# EAGLE library part HELTEC-WIFI-KIT-32 (library BadgeParts)
Footprint and pinout for the Heltec Automation Wifi Kit 32 based upon the ESP32 module.
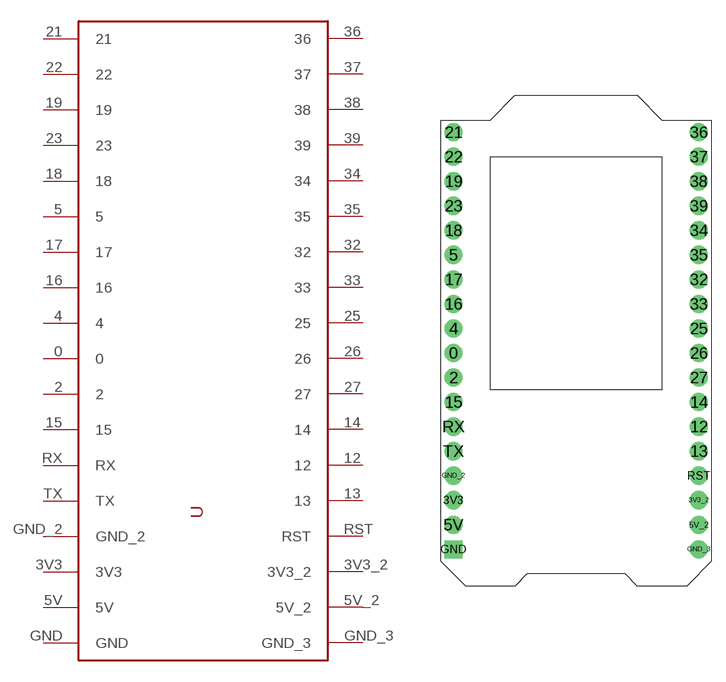
[diagram p0: symbol with the pads of HELTEC-WIFI-KIT-32; footprint HELTEC-WIFI-KIT-32]

Designator prefix -

## HELTEC-WIFI-KIT-32  [HELTEC-WIFI-KIT-32]
0  0
2  2
3V3  3V3
3V3_2  3V3_2
4  4
5  5
5V  5V
5V_2  5V_2
12  12
13  13
14  14
15  15
16  16
17  17
18  18
19  19
21  21
22  22
23  23
25  25
26  26
27  27
32  32
33  33
34  34
35  35
36  36
37  37
38  38
39  39
GND  GND
GND_2  GND_2
GND_3  GND_3
RST  RST
RX  RX
TX  TX

## Footprint HELTEC-WIFI-KIT-32 (pad centres in mm)
drill 1.016 pad 1.88: 0 0,20.32; 2 0,17.78; 3V3 0,5.08; 3V3_2 25.4,5.08; 4 0,22.86; 5 0,30.48; 5V 0,2.54; 5V_2 25.4,2.54; 12 25.4,12.7; 13 25.4,10.16; 14 25.4,15.24; 15 0,15.24; 16 0,25.4; 17 0,27.94; 18 0,33.02; 19 0,38.1; 21 0,43.18; 22 0,40.64; 23 0,35.56; 25 25.4,22.86; 26 25.4,20.32; 27 25.4,17.78; 32 25.4,27.94; 33 25.4,25.4; 34 25.4,33.02; 35 25.4,30.48; 36 25.4,43.18; 37 25.4,40.64; 38 25.4,38.1; 39 25.4,35.56; GND_2 0,7.62; GND_3 25.4,0; RST 25.4,7.62; RX 0,12.7; TX 0,10.16
drill 1.016 pad 1.88 square: GND 0,0